# Altium integrated library ON Semi Transient Voltage Suppressors (TVS).IntLib: 730 symbols (part 12 of 17)
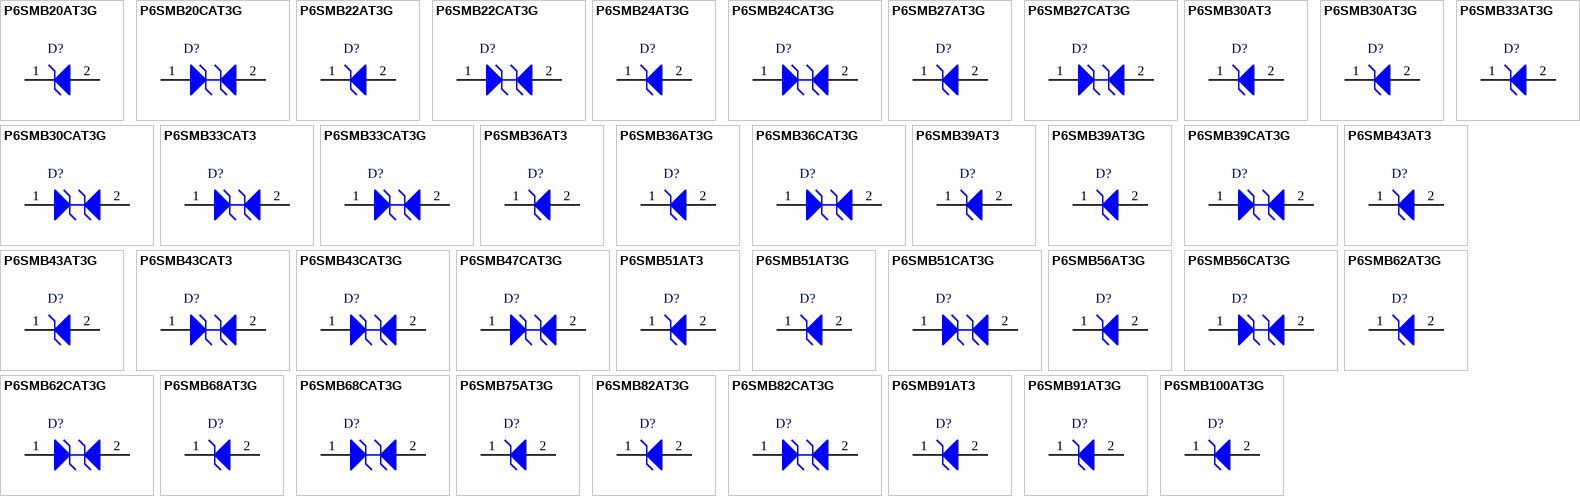
[diagram p29: symbols P6SMB20AT3G to P6SMB100AT3G]

## P6SMB30AT3
designator D?
600 W Peak Power Zener Transient Voltage Suppressor, Unidirectional, 2-Pin SMB, Tape and Reel; Manufacturer: On Semiconductor; PartNumber: P6SMB30AT3; IR Max (uA): 5; PPK Max (W): 600; V(BR) Typ (V): 30; DatasheetVersion: Rev. J; PackageVersion: Rev. J, 07/2012; PackageReference: SMB-2-403A-03_J; PackageDescription: 2-Pin Small Molded Package, J-Bend Lead, Body 4.33 x 3.625 mm; Supplier 1: Digi-Key; Supplier Part Number 1: P6SMB30AT3OSCT-ND; Supplier 2: Digi-Key; Supplier Part Number 2: P6SMB30AT3OSDKR-ND; Direction: Unidirectional; Packing: Tape and Reel; Mounting Technology: Surface Mount; ComponentLink1Description: Manufacturer URL; ComponentLink1URL: http://www.onsemi.com/; ComponentLink2Description: Datasheet; ComponentLink2URL: http://www.onsemi.com/pub_link/Collateral/P6SMB6.8AT3-D.PDF; ComponentLink3Description: Package Specification; ComponentLink3URL: http://www.onsemi.com/pub_link/Collateral/P6SMB6.8AT3-D.PDF
footprint ONSC-SMB-2-403A-03_J_V (Molded, 2-Leads, Body 4.6x3.95mm)
pins: 1 K, 2 A

## P6SMB30AT3G
designator D?
600 W Peak Power Zener Transient Voltage Suppressor, Unidirectional, 2-Pin SMB, Pb-Free, Tape and Reel; Manufacturer: On Semiconductor; PartNumber: P6SMB30AT3G; IR Max (uA): 5; PPK Max (W): 600; V(BR) Typ (V): 30; DatasheetVersion: Rev. J; PackageVersion: Rev. J, 07/2012; PackageReference: SMB-2-403A-03_J; PackageDescription: 2-Pin Small Molded Package, J-Bend Lead, Body 4.33 x 3.625 mm; Supplier 1: Digi-Key; Supplier Part Number 1: P6SMB30AT3GOSTR-ND; Supplier 2: Digi-Key; Supplier Part Number 2: P6SMB30AT3GOSCT-ND; Supplier 3: Digi-Key; Supplier Part Number 3: P6SMB30AT3GOSDKR-ND; Supplier 4: Farnell; Supplier Part Number 4: 1651643; Supplier 5: Farnell; Supplier Part Number 5: 1651643RL; Supplier 6: Newark; Supplier Part Number 6: 71J7344; Supplier 7: Mouser; Supplier Part Number 7: 863-P6SMB30AT3G; Direction: Unidirectional; Packing: Tape and Reel; RoHS: Pb-Free; Mounting Technology: Surface Mount; ComponentLink1Description: Manufacturer URL; ComponentLink1URL: http://www.onsemi.com/; ComponentLink2Description: Datasheet; ComponentLink2URL: http://www.onsemi.com/pub_link/Collateral/P6SMB6.8AT3-D.PDF; ComponentLink3Description: Package Specification; ComponentLink3URL: http://www.onsemi.com/pub_link/Collateral/P6SMB6.8AT3-D.PDF
footprint ONSC-SMB-2-403A-03_J_V (Molded, 2-Leads, Body 4.6x3.95mm)
pins: 1 K, 2 A

## P6SMB30CAT3G
designator D?
600 W Peak Power Zener Transient Voltage Suppressor, Bidirectional, 2-Pin SMB, Pb-Free, Tape and Reel; Manufacturer: On Semiconductor; PartNumber: P6SMB30CAT3G; IR Max (uA): 5; PPK Max (W): 600; V(BR) Typ (V): 30; DatasheetVersion: Rev. 12; PackageVersion: Rev. H, 05/2011; PackageReference: SMB-2-403A-03_H; PackageDescription: 2-Pin Small Molded Package, J-Bend Lead, Body 4.33 x 3.625 mm; Supplier 1: Digi-Key; Supplier Part Number 1: P6SMB30CAT3GOSTR-ND; Supplier 2: Digi-Key; Supplier Part Number 2: P6SMB30CAT3GOSCT-ND; Supplier 3: Digi-Key; Supplier Part Number 3: P6SMB30CAT3GOSDKR-ND; Supplier 4: Farnell; Supplier Part Number 4: 1364578; Supplier 5: Newark; Supplier Part Number 5: 42K2551; Supplier 6: Mouser; Supplier Part Number 6: 863-P6SMB30CAT3G; Direction: Bidirectional; Packing: Tape and Reel; RoHS: Pb-Free; Mounting Technology: Surface Mount; ComponentLink1Description: Manufacturer URL; ComponentLink1URL: http://www.onsemi.com/; ComponentLink2Description: Datasheet; ComponentLink2URL: http://www.onsemi.com/pub_link/Collateral/P6SMB11CAT3-D.PDF; ComponentLink3Description: Package Specification; ComponentLink3URL: http://www.onsemi.com/pub_link/Collateral/1SMB5913BT3-D.PDF
footprint ONSC-SMB-2-403A-03_H_V (Molded, 2-Leads, Body 4.6x3.95mm)
pins: 1 A1, 2 A2

## P6SMB33AT3G
designator D?
600 W Peak Power Zener Transient Voltage Suppressor, Unidirectional, 2-Pin SMB, Pb-Free, Tape and Reel; Manufacturer: On Semiconductor; PartNumber: P6SMB33AT3G; IR Max (uA): 5; PPK Max (W): 600; V(BR) Typ (V): 33.05; DatasheetVersion: Rev. J; PackageVersion: Rev. J, 07/2012; PackageReference: SMB-2-403A-03_J; PackageDescription: 2-Pin Small Molded Package, J-Bend Lead, Body 4.33 x 3.625 mm; Supplier 1: Digi-Key; Supplier Part Number 1: P6SMB33AT3GOSTR-ND; Supplier 2: Digi-Key; Supplier Part Number 2: P6SMB33AT3GOSCT-ND; Supplier 3: Digi-Key; Supplier Part Number 3: P6SMB33AT3GOSDKR-ND; Supplier 4: Farnell; Supplier Part Number 4: 2317507; Supplier 5: Newark; Supplier Part Number 5: 45J2228; Supplier 6: Mouser; Supplier Part Number 6: 863-P6SMB33AT3G; Direction: Unidirectional; Packing: Tape and Reel; RoHS: Pb-Free; Mounting Technology: Surface Mount; ComponentLink1Description: Manufacturer URL; ComponentLink1URL: http://www.onsemi.com/; ComponentLink2Description: Datasheet; ComponentLink2URL: http://www.onsemi.com/pub_link/Collateral/P6SMB6.8AT3-D.PDF; ComponentLink3Description: Package Specification; ComponentLink3URL: http://www.onsemi.com/pub_link/Collateral/P6SMB6.8AT3-D.PDF
footprint ONSC-SMB-2-403A-03_J_V (Molded, 2-Leads, Body 4.6x3.95mm)
pins: 1 K, 2 A

## P6SMB33CAT3
designator D?
600 W Peak Power Zener Transient Voltage Suppressor, Bidirectional, 2-Pin SMB, Tape and Reel; Manufacturer: On Semiconductor; PartNumber: P6SMB33CAT3; IR Max (uA): 5; PPK Max (W): 600; V(BR) Typ (V): 33.05; DatasheetVersion: Rev. 12; PackageVersion: Rev. H, 05/2011; PackageReference: SMB-2-403A-03_H; PackageDescription: 2-Pin Small Molded Package, J-Bend Lead, Body 4.33 x 3.625 mm; Supplier 1: Digi-Key; Supplier Part Number 1: P6SMB33CAT3OSTR-ND; Supplier 2: Digi-Key; Supplier Part Number 2: P6SMB33CAT3OSCT-ND; Supplier 3: Digi-Key; Supplier Part Number 3: P6SMB33CAT3OSDKR-ND; Direction: Bidirectional; Packing: Tape and Reel; Mounting Technology: Surface Mount; ComponentLink1Description: Manufacturer URL; ComponentLink1URL: http://www.onsemi.com/; ComponentLink2Description: Datasheet; ComponentLink2URL: http://www.onsemi.com/pub_link/Collateral/P6SMB11CAT3-D.PDF; ComponentLink3Description: Package Specification; ComponentLink3URL: http://www.onsemi.com/pub_link/Collateral/1SMB5913BT3-D.PDF
footprint ONSC-SMB-2-403A-03_H_V (Molded, 2-Leads, Body 4.6x3.95mm)
pins: 1 A1, 2 A2

## P6SMB33CAT3G
designator D?
600 W Peak Power Zener Transient Voltage Suppressor, Bidirectional, 2-Pin SMB, Pb-Free, Tape and Reel; Manufacturer: On Semiconductor; PartNumber: P6SMB33CAT3G; IR Max (uA): 5; PPK Max (W): 600; V(BR) Typ (V): 33.05; DatasheetVersion: Rev. 12; PackageVersion: Rev. H, 05/2011; PackageReference: SMB-2-403A-03_H; PackageDescription: 2-Pin Small Molded Package, J-Bend Lead, Body 4.33 x 3.625 mm; Supplier 1: Digi-Key; Supplier Part Number 1: P6SMB33CAT3GOSTR-ND; Supplier 2: Digi-Key; Supplier Part Number 2: P6SMB33CAT3GOSCT-ND; Supplier 3: Digi-Key; Supplier Part Number 3: P6SMB33CAT3GOSDKR-ND; Supplier 4: Farnell; Supplier Part Number 4: 1143541; Supplier 5: Newark; Supplier Part Number 5: 42K2552; Supplier 6: Mouser; Supplier Part Number 6: 863-P6SMB33CAT3G; Direction: Bidirectional; Packing: Tape and Reel; RoHS: Pb-Free; Mounting Technology: Surface Mount; ComponentLink1Description: Manufacturer URL; ComponentLink1URL: http://www.onsemi.com/; ComponentLink2Description: Datasheet; ComponentLink2URL: http://www.onsemi.com/pub_link/Collateral/P6SMB11CAT3-D.PDF; ComponentLink3Description: Package Specification; ComponentLink3URL: http://www.onsemi.com/pub_link/Collateral/1SMB5913BT3-D.PDF
footprint ONSC-SMB-2-403A-03_H_V (Molded, 2-Leads, Body 4.6x3.95mm)
pins: 1 A1, 2 A2

## P6SMB36AT3
designator D?
600 W Peak Power Zener Transient Voltage Suppressor, Unidirectional, 2-Pin SMB, Tape and Reel; Manufacturer: On Semiconductor; PartNumber: P6SMB36AT3; IR Max (uA): 5; PPK Max (W): 600; V(BR) Typ (V): 36; DatasheetVersion: Rev. J; PackageVersion: Rev. J, 07/2012; PackageReference: SMB-2-403A-03_J; PackageDescription: 2-Pin Small Molded Package, J-Bend Lead, Body 4.33 x 3.625 mm; Supplier 1: Digi-Key; Supplier Part Number 1: P6SMB36AT3OSCT-ND; Supplier 2: Digi-Key; Supplier Part Number 2: P6SMB36AT3OSDKR-ND; Direction: Unidirectional; Packing: Tape and Reel; Mounting Technology: Surface Mount; ComponentLink1Description: Manufacturer URL; ComponentLink1URL: http://www.onsemi.com/; ComponentLink2Description: Datasheet; ComponentLink2URL: http://www.onsemi.com/pub_link/Collateral/P6SMB6.8AT3-D.PDF; ComponentLink3Description: Package Specification; ComponentLink3URL: http://www.onsemi.com/pub_link/Collateral/P6SMB6.8AT3-D.PDF
footprint ONSC-SMB-2-403A-03_J_V (Molded, 2-Leads, Body 4.6x3.95mm)
pins: 1 K, 2 A

## P6SMB36AT3G
designator D?
600 W Peak Power Zener Transient Voltage Suppressor, Unidirectional, 2-Pin SMB, Pb-Free, Tape and Reel; Manufacturer: On Semiconductor; PartNumber: P6SMB36AT3G; IR Max (uA): 5; PPK Max (W): 600; V(BR) Typ (V): 36; DatasheetVersion: Rev. J; PackageVersion: Rev. J, 07/2012; PackageReference: SMB-2-403A-03_J; PackageDescription: 2-Pin Small Molded Package, J-Bend Lead, Body 4.33 x 3.625 mm; Supplier 1: Digi-Key; Supplier Part Number 1: P6SMB36AT3GOSTR-ND; Supplier 2: Digi-Key; Supplier Part Number 2: P6SMB36AT3GOSCT-ND; Supplier 3: Digi-Key; Supplier Part Number 3: P6SMB36AT3GOSDKR-ND; Supplier 4: Farnell; Supplier Part Number 4: 1459164; Supplier 5: Farnell; Supplier Part Number 5: 1459164RL; Supplier 6: Newark; Supplier Part Number 6: 45J2229; Supplier 7: Mouser; Supplier Part Number 7: 863-P6SMB36AT3G; Direction: Unidirectional; Packing: Tape and Reel; RoHS: Pb-Free; Mounting Technology: Surface Mount; ComponentLink1Description: Manufacturer URL; ComponentLink1URL: http://www.onsemi.com/; ComponentLink2Description: Datasheet; ComponentLink2URL: http://www.onsemi.com/pub_link/Collateral/P6SMB6.8AT3-D.PDF; ComponentLink3Description: Package Specification; ComponentLink3URL: http://www.onsemi.com/pub_link/Collateral/P6SMB6.8AT3-D.PDF
footprint ONSC-SMB-2-403A-03_J_V (Molded, 2-Leads, Body 4.6x3.95mm)
pins: 1 K, 2 A

## P6SMB36CAT3G
designator D?
600 W Peak Power Zener Transient Voltage Suppressor, Bidirectional, 2-Pin SMB, Pb-Free, Tape and Reel; Manufacturer: On Semiconductor; PartNumber: P6SMB36CAT3G; IR Max (uA): 5; PPK Max (W): 600; V(BR) Typ (V): 36; DatasheetVersion: Rev. 12; PackageVersion: Rev. H, 05/2011; PackageReference: SMB-2-403A-03_H; PackageDescription: 2-Pin Small Molded Package, J-Bend Lead, Body 4.33 x 3.625 mm; Supplier 1: Digi-Key; Supplier Part Number 1: P6SMB36CAT3GOSTR-ND; Supplier 2: Digi-Key; Supplier Part Number 2: P6SMB36CAT3GOSCT-ND; Supplier 3: Digi-Key; Supplier Part Number 3: P6SMB36CAT3GOSDKR-ND; Supplier 4: Farnell; Supplier Part Number 4: 2317514; Supplier 5: Newark; Supplier Part Number 5: 09R9701; Supplier 6: Newark; Supplier Part Number 6: 45J2230; Supplier 7: Mouser; Supplier Part Number 7: 863-P6SMB36CAT3G; Direction: Bidirectional; Packing: Tape and Reel; RoHS: Pb-Free; Mounting Technology: Surface Mount; ComponentLink1Description: Manufacturer URL; ComponentLink1URL: http://www.onsemi.com/; ComponentLink2Description: Datasheet; ComponentLink2URL: http://www.onsemi.com/pub_link/Collateral/P6SMB11CAT3-D.PDF; ComponentLink3Description: Package Specification; ComponentLink3URL: http://www.onsemi.com/pub_link/Collateral/1SMB5913BT3-D.PDF
footprint ONSC-SMB-2-403A-03_H_V (Molded, 2-Leads, Body 4.6x3.95mm)
pins: 1 A1, 2 A2

## P6SMB39AT3
designator D?
600 W Peak Power Zener Transient Voltage Suppressor, Unidirectional, 2-Pin SMB, Tape and Reel; Manufacturer: On Semiconductor; PartNumber: P6SMB39AT3; IR Max (uA): 5; PPK Max (W): 600; V(BR) Typ (V): 39.05; DatasheetVersion: Rev. J; PackageVersion: Rev. J, 07/2012; PackageReference: SMB-2-403A-03_J; PackageDescription: 2-Pin Small Molded Package, J-Bend Lead, Body 4.33 x 3.625 mm; Supplier 1: Digi-Key; Supplier Part Number 1: P6SMB39AT3OSCT-ND; Supplier 2: Digi-Key; Supplier Part Number 2: P6SMB39AT3OSDKR-ND; Direction: Unidirectional; Packing: Tape and Reel; Mounting Technology: Surface Mount; ComponentLink1Description: Manufacturer URL; ComponentLink1URL: http://www.onsemi.com/; ComponentLink2Description: Datasheet; ComponentLink2URL: http://www.onsemi.com/pub_link/Collateral/P6SMB6.8AT3-D.PDF; ComponentLink3Description: Package Specification; ComponentLink3URL: http://www.onsemi.com/pub_link/Collateral/P6SMB6.8AT3-D.PDF
footprint ONSC-SMB-2-403A-03_J_V (Molded, 2-Leads, Body 4.6x3.95mm)
pins: 1 K, 2 A

## P6SMB39AT3G
designator D?
600 W Peak Power Zener Transient Voltage Suppressor, Unidirectional, 2-Pin SMB, Pb-Free, Tape and Reel; Manufacturer: On Semiconductor; PartNumber: P6SMB39AT3G; IR Max (uA): 5; PPK Max (W): 600; V(BR) Typ (V): 39.05; DatasheetVersion: Rev. J; PackageVersion: Rev. J, 07/2012; PackageReference: SMB-2-403A-03_J; PackageDescription: 2-Pin Small Molded Package, J-Bend Lead, Body 4.33 x 3.625 mm; Supplier 1: Digi-Key; Supplier Part Number 1: P6SMB39AT3GOSTR-ND; Supplier 2: Digi-Key; Supplier Part Number 2: P6SMB39AT3GOSCT-ND; Supplier 3: Digi-Key; Supplier Part Number 3: P6SMB39AT3GOSDKR-ND; Supplier 4: Farnell; Supplier Part Number 4: 1459165; Supplier 5: Farnell; Supplier Part Number 5: 1459165RL; Supplier 6: Newark; Supplier Part Number 6: 45J2231; Supplier 7: Mouser; Supplier Part Number 7: 863-P6SMB39AT3G; Direction: Unidirectional; Packing: Tape and Reel; RoHS: Pb-Free; Mounting Technology: Surface Mount; ComponentLink1Description: Manufacturer URL; ComponentLink1URL: http://www.onsemi.com/; ComponentLink2Description: Datasheet; ComponentLink2URL: http://www.onsemi.com/pub_link/Collateral/P6SMB6.8AT3-D.PDF; ComponentLink3Description: Package Specification; ComponentLink3URL: http://www.onsemi.com/pub_link/Collateral/P6SMB6.8AT3-D.PDF
footprint ONSC-SMB-2-403A-03_J_V (Molded, 2-Leads, Body 4.6x3.95mm)
pins: 1 K, 2 A

## P6SMB39CAT3G
designator D?
600 W Peak Power Zener Transient Voltage Suppressor, Bidirectional, 2-Pin SMB, Pb-Free, Tape and Reel; Manufacturer: On Semiconductor; PartNumber: P6SMB39CAT3G; IR Max (uA): 5; PPK Max (W): 600; V(BR) Typ (V): 39.05; DatasheetVersion: Rev. 12; PackageVersion: Rev. H, 05/2011; PackageReference: SMB-2-403A-03_H; PackageDescription: 2-Pin Small Molded Package, J-Bend Lead, Body 4.33 x 3.625 mm; Supplier 1: Digi-Key; Supplier Part Number 1: P6SMB39CAT3GOSTR-ND; Supplier 2: Digi-Key; Supplier Part Number 2: P6SMB39CAT3GOSCT-ND; Supplier 3: Digi-Key; Supplier Part Number 3: P6SMB39CAT3GOSDKR-ND; Supplier 4: Farnell; Supplier Part Number 4: 2317496; Supplier 5: Newark; Supplier Part Number 5: 09R9702; Supplier 6: Newark; Supplier Part Number 6: 90W9547; Supplier 7: Newark; Supplier Part Number 7: 42K2553; Supplier 8: Mouser; Supplier Part Number 8: 863-P6SMB39CAT3G; Direction: Bidirectional; Packing: Tape and Reel; RoHS: Pb-Free; Mounting Technology: Surface Mount; ComponentLink1Description: Manufacturer URL; ComponentLink1URL: http://www.onsemi.com/; ComponentLink2Description: Datasheet; ComponentLink2URL: http://www.onsemi.com/pub_link/Collateral/P6SMB11CAT3-D.PDF; ComponentLink3Description: Package Specification; ComponentLink3URL: http://www.onsemi.com/pub_link/Collateral/1SMB5913BT3-D.PDF
footprint ONSC-SMB-2-403A-03_H_V (Molded, 2-Leads, Body 4.6x3.95mm)
pins: 1 A1, 2 A2

## P6SMB43AT3
designator D?
600 W Peak Power Zener Transient Voltage Suppressor, Unidirectional, 2-Pin SMB, Tape and Reel; Manufacturer: On Semiconductor; PartNumber: P6SMB43AT3; IR Max (uA): 5; PPK Max (W): 600; V(BR) Typ (V): 43.05; DatasheetVersion: Rev. J; PackageVersion: Rev. J, 07/2012; PackageReference: SMB-2-403A-03_J; PackageDescription: 2-Pin Small Molded Package, J-Bend Lead, Body 4.33 x 3.625 mm; Supplier 1: Digi-Key; Supplier Part Number 1: P6SMB43AT3OSCT-ND; Supplier 2: Digi-Key; Supplier Part Number 2: P6SMB43AT3OSDKR-ND; Direction: Unidirectional; Packing: Tape and Reel; Mounting Technology: Surface Mount; ComponentLink1Description: Manufacturer URL; ComponentLink1URL: http://www.onsemi.com/; ComponentLink2Description: Datasheet; ComponentLink2URL: http://www.onsemi.com/pub_link/Collateral/P6SMB6.8AT3-D.PDF; ComponentLink3Description: Package Specification; ComponentLink3URL: http://www.onsemi.com/pub_link/Collateral/P6SMB6.8AT3-D.PDF
footprint ONSC-SMB-2-403A-03_J_V (Molded, 2-Leads, Body 4.6x3.95mm)
pins: 1 K, 2 A

## P6SMB43AT3G
designator D?
600 W Peak Power Zener Transient Voltage Suppressor, Unidirectional, 2-Pin SMB, Pb-Free, Tape and Reel; Manufacturer: On Semiconductor; PartNumber: P6SMB43AT3G; IR Max (uA): 5; PPK Max (W): 600; V(BR) Typ (V): 43.05; DatasheetVersion: Rev. J; PackageVersion: Rev. J, 07/2012; PackageReference: SMB-2-403A-03_J; PackageDescription: 2-Pin Small Molded Package, J-Bend Lead, Body 4.33 x 3.625 mm; Supplier 1: Digi-Key; Supplier Part Number 1: P6SMB43AT3GOSTR-ND; Supplier 2: Digi-Key; Supplier Part Number 2: P6SMB43AT3GOSCT-ND; Supplier 3: Digi-Key; Supplier Part Number 3: P6SMB43AT3GOSDKR-ND; Supplier 4: Farnell; Supplier Part Number 4: 2317482; Supplier 5: Newark; Supplier Part Number 5: 09R9703; Supplier 6: Newark; Supplier Part Number 6: 45J2232; Supplier 7: Mouser; Supplier Part Number 7: 863-P6SMB43AT3G; Direction: Unidirectional; Packing: Tape and Reel; RoHS: Pb-Free; Mounting Technology: Surface Mount; ComponentLink1Description: Manufacturer URL; ComponentLink1URL: http://www.onsemi.com/; ComponentLink2Description: Datasheet; ComponentLink2URL: http://www.onsemi.com/pub_link/Collateral/P6SMB6.8AT3-D.PDF; ComponentLink3Description: Package Specification; ComponentLink3URL: http://www.onsemi.com/pub_link/Collateral/P6SMB6.8AT3-D.PDF
footprint ONSC-SMB-2-403A-03_J_V (Molded, 2-Leads, Body 4.6x3.95mm)
pins: 1 K, 2 A

## P6SMB43CAT3
designator D?
600 W Peak Power Zener Transient Voltage Suppressor, Bidirectional, 2-Pin SMB, Tape and Reel; Manufacturer: On Semiconductor; PartNumber: P6SMB43CAT3; IR Max (uA): 5; PPK Max (W): 600; V(BR) Typ (V): 43.05; DatasheetVersion: Rev. 12; PackageVersion: Rev. H, 05/2011; PackageReference: SMB-2-403A-03_H; PackageDescription: 2-Pin Small Molded Package, J-Bend Lead, Body 4.33 x 3.625 mm; Direction: Bidirectional; Packing: Tape and Reel; Mounting Technology: Surface Mount; ComponentLink1Description: Manufacturer URL; ComponentLink1URL: http://www.onsemi.com/; ComponentLink2Description: Datasheet; ComponentLink2URL: http://www.onsemi.com/pub_link/Collateral/P6SMB11CAT3-D.PDF; ComponentLink3Description: Package Specification; ComponentLink3URL: http://www.onsemi.com/pub_link/Collateral/1SMB5913BT3-D.PDF
footprint ONSC-SMB-2-403A-03_H_V (Molded, 2-Leads, Body 4.6x3.95mm)
pins: 1 A1, 2 A2

## P6SMB43CAT3G
designator D?
600 W Peak Power Zener Transient Voltage Suppressor, Bidirectional, 2-Pin SMB, Pb-Free, Tape and Reel; Manufacturer: On Semiconductor; PartNumber: P6SMB43CAT3G; IR Max (uA): 5; PPK Max (W): 600; V(BR) Typ (V): 43.05; DatasheetVersion: Rev. 12; PackageVersion: Rev. H, 05/2011; PackageReference: SMB-2-403A-03_H; PackageDescription: 2-Pin Small Molded Package, J-Bend Lead, Body 4.33 x 3.625 mm; Supplier 1: Digi-Key; Supplier Part Number 1: P6SMB43CAT3GOSTR-ND; Supplier 2: Digi-Key; Supplier Part Number 2: P6SMB43CAT3GOSCT-ND; Supplier 3: Digi-Key; Supplier Part Number 3: P6SMB43CAT3GOSDKR-ND; Supplier 4: Newark; Supplier Part Number 4: 45J2233; Supplier 5: Mouser; Supplier Part Number 5: 863-P6SMB43CAT3G; Direction: Bidirectional; Packing: Tape and Reel; RoHS: Pb-Free; Mounting Technology: Surface Mount; ComponentLink1Description: Manufacturer URL; ComponentLink1URL: http://www.onsemi.com/; ComponentLink2Description: Datasheet; ComponentLink2URL: http://www.onsemi.com/pub_link/Collateral/P6SMB11CAT3-D.PDF; ComponentLink3Description: Package Specification; ComponentLink3URL: http://www.onsemi.com/pub_link/Collateral/1SMB5913BT3-D.PDF
footprint ONSC-SMB-2-403A-03_H_V (Molded, 2-Leads, Body 4.6x3.95mm)
pins: 1 A1, 2 A2

## P6SMB47CAT3G
designator D?
600 W Peak Power Zener Transient Voltage Suppressor, Bidirectional, 2-Pin SMB, Pb-Free, Tape and Reel; Manufacturer: On Semiconductor; PartNumber: P6SMB47CAT3G; IR Max (uA): 5; PPK Max (W): 600; V(BR) Typ (V): 47.05; DatasheetVersion: Rev. 12; PackageVersion: Rev. H, 05/2011; PackageReference: SMB-2-403A-03_H; PackageDescription: 2-Pin Small Molded Package, J-Bend Lead, Body 4.33 x 3.625 mm; Supplier 1: Digi-Key; Supplier Part Number 1: P6SMB47CAT3GOSTR-ND; Supplier 2: Digi-Key; Supplier Part Number 2: P6SMB47CAT3GOSCT-ND; Supplier 3: Digi-Key; Supplier Part Number 3: P6SMB47CAT3GOSDKR-ND; Supplier 4: Newark; Supplier Part Number 4: 26K5161; Supplier 5: Mouser; Supplier Part Number 5: 863-P6SMB47CAT3G; Direction: Bidirectional; Packing: Tape and Reel; RoHS: Pb-Free; Mounting Technology: Surface Mount; ComponentLink1Description: Manufacturer URL; ComponentLink1URL: http://www.onsemi.com/; ComponentLink2Description: Datasheet; ComponentLink2URL: http://www.onsemi.com/pub_link/Collateral/P6SMB11CAT3-D.PDF; ComponentLink3Description: Package Specification; ComponentLink3URL: http://www.onsemi.com/pub_link/Collateral/1SMB5913BT3-D.PDF
footprint ONSC-SMB-2-403A-03_H_V (Molded, 2-Leads, Body 4.6x3.95mm)
pins: 1 A1, 2 A2

## P6SMB51AT3
designator D?
600 W Peak Power Zener Transient Voltage Suppressor, Unidirectional, 2-Pin SMB, Tape and Reel; Manufacturer: On Semiconductor; PartNumber: P6SMB51AT3; IR Max (uA): 5; PPK Max (W): 600; V(BR) Typ (V): 51.05; DatasheetVersion: Rev. J; PackageVersion: Rev. J, 07/2012; PackageReference: SMB-2-403A-03_J; PackageDescription: 2-Pin Small Molded Package, J-Bend Lead, Body 4.33 x 3.625 mm; Supplier 1: Digi-Key; Supplier Part Number 1: P6SMB51AT3OSCT-ND; Supplier 2: Digi-Key; Supplier Part Number 2: P6SMB51AT3OSDKR-ND; Direction: Unidirectional; Packing: Tape and Reel; Mounting Technology: Surface Mount; ComponentLink1Description: Manufacturer URL; ComponentLink1URL: http://www.onsemi.com/; ComponentLink2Description: Datasheet; ComponentLink2URL: http://www.onsemi.com/pub_link/Collateral/P6SMB6.8AT3-D.PDF; ComponentLink3Description: Package Specification; ComponentLink3URL: http://www.onsemi.com/pub_link/Collateral/P6SMB6.8AT3-D.PDF
footprint ONSC-SMB-2-403A-03_J_V (Molded, 2-Leads, Body 4.6x3.95mm)
pins: 1 K, 2 A

## P6SMB51AT3G
designator D?
600 W Peak Power Zener Transient Voltage Suppressor, Unidirectional, 2-Pin SMB, Pb-Free, Tape and Reel; Manufacturer: On Semiconductor; PartNumber: P6SMB51AT3G; IR Max (uA): 5; PPK Max (W): 600; V(BR) Typ (V): 51.05; DatasheetVersion: Rev. J; PackageVersion: Rev. J, 07/2012; PackageReference: SMB-2-403A-03_J; PackageDescription: 2-Pin Small Molded Package, J-Bend Lead, Body 4.33 x 3.625 mm; Supplier 1: Digi-Key; Supplier Part Number 1: P6SMB51AT3GOSTR-ND; Supplier 2: Digi-Key; Supplier Part Number 2: P6SMB51AT3GOSCT-ND; Supplier 3: Digi-Key; Supplier Part Number 3: P6SMB51AT3GOSDKR-ND; Supplier 4: Newark; Supplier Part Number 4: 26K5162; Supplier 5: Mouser; Supplier Part Number 5: 863-P6SMB51AT3G; Direction: Unidirectional; Packing: Tape and Reel; RoHS: Pb-Free; Mounting Technology: Surface Mount; ComponentLink1Description: Manufacturer URL; ComponentLink1URL: http://www.onsemi.com/; ComponentLink2Description: Datasheet; ComponentLink2URL: http://www.onsemi.com/pub_link/Collateral/P6SMB6.8AT3-D.PDF; ComponentLink3Description: Package Specification; ComponentLink3URL: http://www.onsemi.com/pub_link/Collateral/P6SMB6.8AT3-D.PDF
footprint ONSC-SMB-2-403A-03_J_V (Molded, 2-Leads, Body 4.6x3.95mm)
pins: 1 K, 2 A

## P6SMB51CAT3G
designator D?
600 W Peak Power Zener Transient Voltage Suppressor, Bidirectional, 2-Pin SMB, Pb-Free, Tape and Reel; Manufacturer: On Semiconductor; PartNumber: P6SMB51CAT3G; IR Max (uA): 5; PPK Max (W): 600; V(BR) Typ (V): 51.05; DatasheetVersion: Rev. 12; PackageVersion: Rev. H, 05/2011; PackageReference: SMB-2-403A-03_H; PackageDescription: 2-Pin Small Molded Package, J-Bend Lead, Body 4.33 x 3.625 mm; Supplier 1: Digi-Key; Supplier Part Number 1: P6SMB51CAT3G-ND; Supplier 2: Newark; Supplier Part Number 2: 26K5163; Supplier 3: Mouser; Supplier Part Number 3: 863-P6SMB51CAT3G; Direction: Bidirectional; Packing: Tape and Reel; RoHS: Pb-Free; Mounting Technology: Surface Mount; ComponentLink1Description: Manufacturer URL; ComponentLink1URL: http://www.onsemi.com/; ComponentLink2Description: Datasheet; ComponentLink2URL: http://www.onsemi.com/pub_link/Collateral/P6SMB11CAT3-D.PDF; ComponentLink3Description: Package Specification; ComponentLink3URL: http://www.onsemi.com/pub_link/Collateral/1SMB5913BT3-D.PDF
footprint ONSC-SMB-2-403A-03_H_V (Molded, 2-Leads, Body 4.6x3.95mm)
pins: 1 A1, 2 A2

## P6SMB56AT3G
designator D?
600 W Peak Power Zener Transient Voltage Suppressor, Unidirectional, 2-Pin SMB, Pb-Free, Tape and Reel; Manufacturer: On Semiconductor; PartNumber: P6SMB56AT3G; IR Max (uA): 5; PPK Max (W): 600; V(BR) Typ (V): 56; DatasheetVersion: Rev. J; PackageVersion: Rev. J, 07/2012; PackageReference: SMB-2-403A-03_J; PackageDescription: 2-Pin Small Molded Package, J-Bend Lead, Body 4.33 x 3.625 mm; Supplier 1: Digi-Key; Supplier Part Number 1: P6SMB56AT3GOSTR-ND; Supplier 2: Digi-Key; Supplier Part Number 2: P6SMB56AT3GOSCT-ND; Supplier 3: Digi-Key; Supplier Part Number 3: P6SMB56AT3GOSDKR-ND; Supplier 4: Farnell; Supplier Part Number 4: 2317494; Supplier 5: Newark; Supplier Part Number 5: 85W2868; Supplier 6: Mouser; Supplier Part Number 6: 863-P6SMB56AT3G; Direction: Unidirectional; Packing: Tape and Reel; RoHS: Pb-Free; Mounting Technology: Surface Mount; ComponentLink1Description: Manufacturer URL; ComponentLink1URL: http://www.onsemi.com/; ComponentLink2Description: Datasheet; ComponentLink2URL: http://www.onsemi.com/pub_link/Collateral/P6SMB6.8AT3-D.PDF; ComponentLink3Description: Package Specification; ComponentLink3URL: http://www.onsemi.com/pub_link/Collateral/P6SMB6.8AT3-D.PDF
footprint ONSC-SMB-2-403A-03_J_V (Molded, 2-Leads, Body 4.6x3.95mm)
pins: 1 K, 2 A

## P6SMB56CAT3G
designator D?
600 W Peak Power Zener Transient Voltage Suppressor, Bidirectional, 2-Pin SMB, Pb-Free, Tape and Reel; Manufacturer: On Semiconductor; PartNumber: P6SMB56CAT3G; IR Max (uA): 5; PPK Max (W): 600; V(BR) Typ (V): 56; DatasheetVersion: Rev. 12; PackageVersion: Rev. H, 05/2011; PackageReference: SMB-2-403A-03_H; PackageDescription: 2-Pin Small Molded Package, J-Bend Lead, Body 4.33 x 3.625 mm; Supplier 1: Digi-Key; Supplier Part Number 1: P6SMB56CAT3GOSTR-ND; Supplier 2: Digi-Key; Supplier Part Number 2: P6SMB56CAT3GOSCT-ND; Supplier 3: Digi-Key; Supplier Part Number 3: P6SMB56CAT3GOSDKR-ND; Supplier 4: Newark; Supplier Part Number 4: 26K5165; Supplier 5: Mouser; Supplier Part Number 5: 863-P6SMB56CAT3G; Direction: Bidirectional; Packing: Tape and Reel; RoHS: Pb-Free; Mounting Technology: Surface Mount; ComponentLink1Description: Manufacturer URL; ComponentLink1URL: http://www.onsemi.com/; ComponentLink2Description: Datasheet; ComponentLink2URL: http://www.onsemi.com/pub_link/Collateral/P6SMB11CAT3-D.PDF; ComponentLink3Description: Package Specification; ComponentLink3URL: http://www.onsemi.com/pub_link/Collateral/1SMB5913BT3-D.PDF
footprint ONSC-SMB-2-403A-03_H_V (Molded, 2-Leads, Body 4.6x3.95mm)
pins: 1 A1, 2 A2

## P6SMB62AT3G
designator D?
600 W Peak Power Zener Transient Voltage Suppressor, Unidirectional, 2-Pin SMB, Pb-Free, Tape and Reel; Manufacturer: On Semiconductor; PartNumber: P6SMB62AT3G; IR Max (uA): 5; PPK Max (W): 600; V(BR) Typ (V): 62; DatasheetVersion: Rev. J; PackageVersion: Rev. J, 07/2012; PackageReference: SMB-2-403A-03_J; PackageDescription: 2-Pin Small Molded Package, J-Bend Lead, Body 4.33 x 3.625 mm; Supplier 1: Digi-Key; Supplier Part Number 1: P6SMB62AT3GOSTR-ND; Supplier 2: Digi-Key; Supplier Part Number 2: P6SMB62AT3GOSCT-ND; Supplier 3: Digi-Key; Supplier Part Number 3: P6SMB62AT3GOSDKR-ND; Supplier 4: Newark; Supplier Part Number 4: 26K5166; Supplier 5: Mouser; Supplier Part Number 5: 863-P6SMB62AT3G; Direction: Unidirectional; Packing: Tape and Reel; RoHS: Pb-Free; Mounting Technology: Surface Mount; ComponentLink1Description: Manufacturer URL; ComponentLink1URL: http://www.onsemi.com/; ComponentLink2Description: Datasheet; ComponentLink2URL: http://www.onsemi.com/pub_link/Collateral/P6SMB6.8AT3-D.PDF; ComponentLink3Description: Package Specification; ComponentLink3URL: http://www.onsemi.com/pub_link/Collateral/P6SMB6.8AT3-D.PDF
footprint ONSC-SMB-2-403A-03_J_V (Molded, 2-Leads, Body 4.6x3.95mm)
pins: 1 K, 2 A

## P6SMB62CAT3G
designator D?
600 W Peak Power Zener Transient Voltage Suppressor, Bidirectional, 2-Pin SMB, Pb-Free, Tape and Reel; Manufacturer: On Semiconductor; PartNumber: P6SMB62CAT3G; IR Max (uA): 5; PPK Max (W): 600; V(BR) Typ (V): 62; DatasheetVersion: Rev. 12; PackageVersion: Rev. H, 05/2011; PackageReference: SMB-2-403A-03_H; PackageDescription: 2-Pin Small Molded Package, J-Bend Lead, Body 4.33 x 3.625 mm; Supplier 1: Digi-Key; Supplier Part Number 1: P6SMB62CAT3GOSTR-ND; Supplier 2: Digi-Key; Supplier Part Number 2: P6SMB62CAT3GOSCT-ND; Supplier 3: Digi-Key; Supplier Part Number 3: P6SMB62CAT3GOSDKR-ND; Supplier 4: Mouser; Supplier Part Number 4: 863-P6SMB62CAT3G; Direction: Bidirectional; Packing: Tape and Reel; RoHS: Pb-Free; Mounting Technology: Surface Mount; ComponentLink1Description: Manufacturer URL; ComponentLink1URL: http://www.onsemi.com/; ComponentLink2Description: Datasheet; ComponentLink2URL: http://www.onsemi.com/pub_link/Collateral/P6SMB11CAT3-D.PDF; ComponentLink3Description: Package Specification; ComponentLink3URL: http://www.onsemi.com/pub_link/Collateral/1SMB5913BT3-D.PDF
footprint ONSC-SMB-2-403A-03_H_V (Molded, 2-Leads, Body 4.6x3.95mm)
pins: 1 A1, 2 A2

## P6SMB68AT3G
designator D?
600 W Peak Power Zener Transient Voltage Suppressor, Unidirectional, 2-Pin SMB, Pb-Free, Tape and Reel; Manufacturer: On Semiconductor; PartNumber: P6SMB68AT3G; IR Max (uA): 5; PPK Max (W): 600; V(BR) Typ (V): 68; DatasheetVersion: Rev. J; PackageVersion: Rev. J, 07/2012; PackageReference: SMB-2-403A-03_J; PackageDescription: 2-Pin Small Molded Package, J-Bend Lead, Body 4.33 x 3.625 mm; Supplier 1: Digi-Key; Supplier Part Number 1: P6SMB68AT3GOSTR-ND; Supplier 2: Digi-Key; Supplier Part Number 2: P6SMB68AT3GOSCT-ND; Supplier 3: Digi-Key; Supplier Part Number 3: P6SMB68AT3GOSDKR-ND; Supplier 4: Newark; Supplier Part Number 4: 26K5168; Supplier 5: Mouser; Supplier Part Number 5: 863-P6SMB68AT3G; Direction: Unidirectional; Packing: Tape and Reel; RoHS: Pb-Free; Mounting Technology: Surface Mount; ComponentLink1Description: Manufacturer URL; ComponentLink1URL: http://www.onsemi.com/; ComponentLink2Description: Datasheet; ComponentLink2URL: http://www.onsemi.com/pub_link/Collateral/P6SMB6.8AT3-D.PDF; ComponentLink3Description: Package Specification; ComponentLink3URL: http://www.onsemi.com/pub_link/Collateral/P6SMB6.8AT3-D.PDF
footprint ONSC-SMB-2-403A-03_J_V (Molded, 2-Leads, Body 4.6x3.95mm)
pins: 1 K, 2 A

## P6SMB68CAT3G
designator D?
600 W Peak Power Zener Transient Voltage Suppressor, Bidirectional, 2-Pin SMB, Pb-Free, Tape and Reel; Manufacturer: On Semiconductor; PartNumber: P6SMB68CAT3G; IR Max (uA): 5; PPK Max (W): 600; V(BR) Typ (V): 68; DatasheetVersion: Rev. 12; PackageVersion: Rev. H, 05/2011; PackageReference: SMB-2-403A-03_H; PackageDescription: 2-Pin Small Molded Package, J-Bend Lead, Body 4.33 x 3.625 mm; Supplier 1: Digi-Key; Supplier Part Number 1: P6SMB68CAT3GOSTR-ND; Supplier 2: Digi-Key; Supplier Part Number 2: P6SMB68CAT3GOSCT-ND; Supplier 3: Digi-Key; Supplier Part Number 3: P6SMB68CAT3GOSDKR-ND; Supplier 4: Newark; Supplier Part Number 4: 26K5169; Supplier 5: Mouser; Supplier Part Number 5: 863-P6SMB68CAT3G; Direction: Bidirectional; Packing: Tape and Reel; RoHS: Pb-Free; Mounting Technology: Surface Mount; ComponentLink1Description: Manufacturer URL; ComponentLink1URL: http://www.onsemi.com/; ComponentLink2Description: Datasheet; ComponentLink2URL: http://www.onsemi.com/pub_link/Collateral/P6SMB11CAT3-D.PDF; ComponentLink3Description: Package Specification; ComponentLink3URL: http://www.onsemi.com/pub_link/Collateral/1SMB5913BT3-D.PDF
footprint ONSC-SMB-2-403A-03_H_V (Molded, 2-Leads, Body 4.6x3.95mm)
pins: 1 A1, 2 A2

## P6SMB75AT3G
designator D?
600 W Peak Power Zener Transient Voltage Suppressor, Unidirectional, 2-Pin SMB, Pb-Free, Tape and Reel; Manufacturer: On Semiconductor; PartNumber: P6SMB75AT3G; IR Max (uA): 5; PPK Max (W): 600; V(BR) Typ (V): 75.05; DatasheetVersion: Rev. J; PackageVersion: Rev. J, 07/2012; PackageReference: SMB-2-403A-03_J; PackageDescription: 2-Pin Small Molded Package, J-Bend Lead, Body 4.33 x 3.625 mm; Supplier 1: Digi-Key; Supplier Part Number 1: P6SMB75AT3G-ND; Supplier 2: Farnell; Supplier Part Number 2: 1311477; Supplier 3: Newark; Supplier Part Number 3: 71J7345; Supplier 4: Mouser; Supplier Part Number 4: 863-P6SMB75AT3G; Direction: Unidirectional; Packing: Tape and Reel; RoHS: Pb-Free; Mounting Technology: Surface Mount; ComponentLink1Description: Manufacturer URL; ComponentLink1URL: http://www.onsemi.com/; ComponentLink2Description: Datasheet; ComponentLink2URL: http://www.onsemi.com/pub_link/Collateral/P6SMB6.8AT3-D.PDF; ComponentLink3Description: Package Specification; ComponentLink3URL: http://www.onsemi.com/pub_link/Collateral/P6SMB6.8AT3-D.PDF
footprint ONSC-SMB-2-403A-03_J_V (Molded, 2-Leads, Body 4.6x3.95mm)
pins: 1 K, 2 A

## P6SMB82AT3G
designator D?
600 W Peak Power Zener Transient Voltage Suppressor, Unidirectional, 2-Pin SMB, Pb-Free, Tape and Reel; Manufacturer: On Semiconductor; PartNumber: P6SMB82AT3G; IR Max (uA): 5; PPK Max (W): 600; V(BR) Typ (V): 82; DatasheetVersion: Rev. J; PackageVersion: Rev. J, 07/2012; PackageReference: SMB-2-403A-03_J; PackageDescription: 2-Pin Small Molded Package, J-Bend Lead, Body 4.33 x 3.625 mm; Supplier 1: Digi-Key; Supplier Part Number 1: P6SMB82AT3GOS-ND; Supplier 2: Newark; Supplier Part Number 2: 83H7848; Supplier 3: Mouser; Supplier Part Number 3: 863-P6SMB82AT3G; Direction: Unidirectional; Packing: Tape and Reel; RoHS: Pb-Free; Mounting Technology: Surface Mount; ComponentLink1Description: Manufacturer URL; ComponentLink1URL: http://www.onsemi.com/; ComponentLink2Description: Datasheet; ComponentLink2URL: http://www.onsemi.com/pub_link/Collateral/P6SMB6.8AT3-D.PDF; ComponentLink3Description: Package Specification; ComponentLink3URL: http://www.onsemi.com/pub_link/Collateral/P6SMB6.8AT3-D.PDF
footprint ONSC-SMB-2-403A-03_J_V (Molded, 2-Leads, Body 4.6x3.95mm)
pins: 1 K, 2 A

## P6SMB82CAT3G
designator D?
600 W Peak Power Zener Transient Voltage Suppressor, Bidirectional, 2-Pin SMB, Pb-Free, Tape and Reel; Manufacturer: On Semiconductor; PartNumber: P6SMB82CAT3G; IR Max (uA): 5; PPK Max (W): 600; V(BR) Typ (V): 82; DatasheetVersion: Rev. 12; PackageVersion: Rev. H, 05/2011; PackageReference: SMB-2-403A-03_H; PackageDescription: 2-Pin Small Molded Package, J-Bend Lead, Body 4.33 x 3.625 mm; Supplier 1: Digi-Key; Supplier Part Number 1: P6SMB82CAT3G-ND; Supplier 2: Mouser; Supplier Part Number 2: 863-P6SMB82CAT3G; Direction: Bidirectional; Packing: Tape and Reel; RoHS: Pb-Free; Mounting Technology: Surface Mount; ComponentLink1Description: Manufacturer URL; ComponentLink1URL: http://www.onsemi.com/; ComponentLink2Description: Datasheet; ComponentLink2URL: http://www.onsemi.com/pub_link/Collateral/P6SMB11CAT3-D.PDF; ComponentLink3Description: Package Specification; ComponentLink3URL: http://www.onsemi.com/pub_link/Collateral/1SMB5913BT3-D.PDF
footprint ONSC-SMB-2-403A-03_H_V (Molded, 2-Leads, Body 4.6x3.95mm)
pins: 1 A1, 2 A2

## P6SMB91AT3
designator D?
600 W Peak Power Zener Transient Voltage Suppressor, Unidirectional, 2-Pin SMB, Tape and Reel; Manufacturer: On Semiconductor; PartNumber: P6SMB91AT3; IR Max (uA): 5; PPK Max (W): 600; V(BR) Typ (V): 91; DatasheetVersion: Rev. J; PackageVersion: Rev. J, 07/2012; PackageReference: SMB-2-403A-03_J; PackageDescription: 2-Pin Small Molded Package, J-Bend Lead, Body 4.33 x 3.625 mm; Direction: Unidirectional; Packing: Tape and Reel; Mounting Technology: Surface Mount; ComponentLink1Description: Manufacturer URL; ComponentLink1URL: http://www.onsemi.com/; ComponentLink2Description: Datasheet; ComponentLink2URL: http://www.onsemi.com/pub_link/Collateral/P6SMB6.8AT3-D.PDF; ComponentLink3Description: Package Specification; ComponentLink3URL: http://www.onsemi.com/pub_link/Collateral/P6SMB6.8AT3-D.PDF
footprint ONSC-SMB-2-403A-03_J_V (Molded, 2-Leads, Body 4.6x3.95mm)
pins: 1 K, 2 A

## P6SMB91AT3G
designator D?
600 W Peak Power Zener Transient Voltage Suppressor, Unidirectional, 2-Pin SMB, Pb-Free, Tape and Reel; Manufacturer: On Semiconductor; PartNumber: P6SMB91AT3G; IR Max (uA): 5; PPK Max (W): 600; V(BR) Typ (V): 91; DatasheetVersion: Rev. J; PackageVersion: Rev. J, 07/2012; PackageReference: SMB-2-403A-03_J; PackageDescription: 2-Pin Small Molded Package, J-Bend Lead, Body 4.33 x 3.625 mm; Supplier 1: Digi-Key; Supplier Part Number 1: P6SMB91AT3G-ND; Supplier 2: Newark; Supplier Part Number 2: 26K5174; Supplier 3: Mouser; Supplier Part Number 3: 863-P6SMB91AT3G; Direction: Unidirectional; Packing: Tape and Reel; RoHS: Pb-Free; Mounting Technology: Surface Mount; ComponentLink1Description: Manufacturer URL; ComponentLink1URL: http://www.onsemi.com/; ComponentLink2Description: Datasheet; ComponentLink2URL: http://www.onsemi.com/pub_link/Collateral/P6SMB6.8AT3-D.PDF; ComponentLink3Description: Package Specification; ComponentLink3URL: http://www.onsemi.com/pub_link/Collateral/P6SMB6.8AT3-D.PDF
footprint ONSC-SMB-2-403A-03_J_V (Molded, 2-Leads, Body 4.6x3.95mm)
pins: 1 K, 2 A

## P6SMB100AT3G
designator D?
600 W Peak Power Zener Transient Voltage Suppressor, Unidirectional, 2-Pin SMB, Pb-Free, Tape and Reel; Manufacturer: On Semiconductor; PartNumber: P6SMB100AT3G; IR Max (uA): 5; PPK Max (W): 600; V(BR) Typ (V): 100; DatasheetVersion: Rev. J; PackageVersion: Rev. J, 07/2012; PackageReference: SMB-2-403A-03_J; PackageDescription: 2-Pin Small Molded Package, J-Bend Lead, Body 4.33 x 3.625 mm; Supplier 1: Digi-Key; Supplier Part Number 1: P6SMB100AT3GOSTR-ND; Supplier 2: Digi-Key; Supplier Part Number 2: P6SMB100AT3GOSCT-ND; Supplier 3: Digi-Key; Supplier Part Number 3: P6SMB100AT3GOSDKR-ND; Supplier 4: Newark; Supplier Part Number 4: 71J7340; Supplier 5: Mouser; Supplier Part Number 5: 863-P6SMB100AT3G; Direction: Unidirectional; Packing: Tape and Reel; RoHS: Pb-Free; Mounting Technology: Surface Mount; ComponentLink1Description: Manufacturer URL; ComponentLink1URL: http://www.onsemi.com/; ComponentLink2Description: Datasheet; ComponentLink2URL: http://www.onsemi.com/pub_link/Collateral/P6SMB6.8AT3-D.PDF; ComponentLink3Description: Package Specification; ComponentLink3URL: http://www.onsemi.com/pub_link/Collateral/P6SMB6.8AT3-D.PDF
footprint ONSC-SMB-2-403A-03_J_V (Molded, 2-Leads, Body 4.6x3.95mm)
pins: 1 K, 2 A

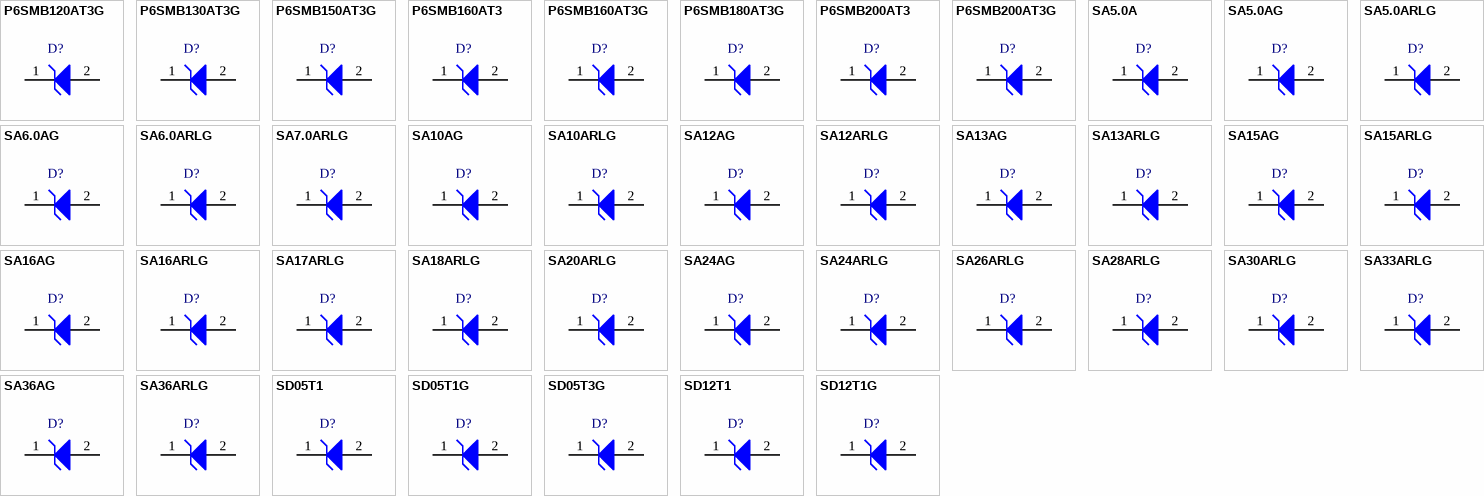
[diagram p13: symbols P6SMB120AT3G to SD12T1G]

## P6SMB120AT3G
designator D?
600 W Peak Power Zener Transient Voltage Suppressor, Unidirectional, 2-Pin SMB, Pb-Free, Tape and Reel; Manufacturer: On Semiconductor; PartNumber: P6SMB120AT3G; IR Max (uA): 5; PPK Max (W): 600; V(BR) Typ (V): 120; DatasheetVersion: Rev. J; PackageVersion: Rev. J, 07/2012; PackageReference: SMB-2-403A-03_J; PackageDescription: 2-Pin Small Molded Package, J-Bend Lead, Body 4.33 x 3.625 mm; Supplier 1: Digi-Key; Supplier Part Number 1: P6SMB120AT3G-ND; Supplier 2: Newark; Supplier Part Number 2: 83K8772; Supplier 3: Mouser; Supplier Part Number 3: 863-P6SMB120AT3G; Direction: Unidirectional; Packing: Tape and Reel; RoHS: Pb-Free; Mounting Technology: Surface Mount; ComponentLink1Description: Manufacturer URL; ComponentLink1URL: http://www.onsemi.com/; ComponentLink2Description: Datasheet; ComponentLink2URL: http://www.onsemi.com/pub_link/Collateral/P6SMB6.8AT3-D.PDF; ComponentLink3Description: Package Specification; ComponentLink3URL: http://www.onsemi.com/pub_link/Collateral/P6SMB6.8AT3-D.PDF
footprint ONSC-SMB-2-403A-03_J_V (Molded, 2-Leads, Body 4.6x3.95mm)
pins: 1 K, 2 A

## P6SMB130AT3G
designator D?
600 W Peak Power Zener Transient Voltage Suppressor, Unidirectional, 2-Pin SMB, Pb-Free, Tape and Reel; Manufacturer: On Semiconductor; PartNumber: P6SMB130AT3G; IR Max (uA): 5; PPK Max (W): 600; V(BR) Typ (V): 130.05; DatasheetVersion: Rev. J; PackageVersion: Rev. J, 07/2012; PackageReference: SMB-2-403A-03_J; PackageDescription: 2-Pin Small Molded Package, J-Bend Lead, Body 4.33 x 3.625 mm; Supplier 1: Digi-Key; Supplier Part Number 1: P6SMB130AT3G-ND; Supplier 2: Newark; Supplier Part Number 2: 42K2547; Supplier 3: Mouser; Supplier Part Number 3: 863-P6SMB130AT3G; Direction: Unidirectional; Packing: Tape and Reel; RoHS: Pb-Free; Mounting Technology: Surface Mount; ComponentLink1Description: Manufacturer URL; ComponentLink1URL: http://www.onsemi.com/; ComponentLink2Description: Datasheet; ComponentLink2URL: http://www.onsemi.com/pub_link/Collateral/P6SMB6.8AT3-D.PDF; ComponentLink3Description: Package Specification; ComponentLink3URL: http://www.onsemi.com/pub_link/Collateral/P6SMB6.8AT3-D.PDF
footprint ONSC-SMB-2-403A-03_J_V (Molded, 2-Leads, Body 4.6x3.95mm)
pins: 1 K, 2 A

## P6SMB150AT3G
designator D?
600 W Peak Power Zener Transient Voltage Suppressor, Unidirectional, 2-Pin SMB, Pb-Free, Tape and Reel; Manufacturer: On Semiconductor; PartNumber: P6SMB150AT3G; IR Max (uA): 5; PPK Max (W): 600; V(BR) Typ (V): 150.05; DatasheetVersion: Rev. J; PackageVersion: Rev. J, 07/2012; PackageReference: SMB-2-403A-03_J; PackageDescription: 2-Pin Small Molded Package, J-Bend Lead, Body 4.33 x 3.625 mm; Supplier 1: Digi-Key; Supplier Part Number 1: P6SMB150AT3GOSTR-ND; Supplier 2: Digi-Key; Supplier Part Number 2: P6SMB150AT3GOSCT-ND; Supplier 3: Digi-Key; Supplier Part Number 3: P6SMB150AT3GOSDKR-ND; Supplier 4: Newark; Supplier Part Number 4: 45J2222; Supplier 5: Newark; Supplier Part Number 5: 10N9600; Supplier 6: Mouser; Supplier Part Number 6: 863-P6SMB150AT3G; Direction: Unidirectional; Packing: Tape and Reel; RoHS: Pb-Free; Mounting Technology: Surface Mount; ComponentLink1Description: Manufacturer URL; ComponentLink1URL: http://www.onsemi.com/; ComponentLink2Description: Datasheet; ComponentLink2URL: http://www.onsemi.com/pub_link/Collateral/P6SMB6.8AT3-D.PDF; ComponentLink3Description: Package Specification; ComponentLink3URL: http://www.onsemi.com/pub_link/Collateral/P6SMB6.8AT3-D.PDF
footprint ONSC-SMB-2-403A-03_J_V (Molded, 2-Leads, Body 4.6x3.95mm)
pins: 1 K, 2 A

## P6SMB160AT3
designator D?
600 W Peak Power Zener Transient Voltage Suppressor, Unidirectional, 2-Pin SMB, Tape and Reel; Manufacturer: On Semiconductor; PartNumber: P6SMB160AT3; IR Max (uA): 5; PPK Max (W): 600; V(BR) Typ (V): 160; DatasheetVersion: Rev. J; PackageVersion: Rev. J, 07/2012; PackageReference: SMB-2-403A-03_J; PackageDescription: 2-Pin Small Molded Package, J-Bend Lead, Body 4.33 x 3.625 mm; Supplier 1: Digi-Key; Supplier Part Number 1: P6SMB160AT3OSCT-ND; Supplier 2: Digi-Key; Supplier Part Number 2: P6SMB160AT3OSDKR-ND; Direction: Unidirectional; Packing: Tape and Reel; Mounting Technology: Surface Mount; ComponentLink1Description: Manufacturer URL; ComponentLink1URL: http://www.onsemi.com/; ComponentLink2Description: Datasheet; ComponentLink2URL: http://www.onsemi.com/pub_link/Collateral/P6SMB6.8AT3-D.PDF; ComponentLink3Description: Package Specification; ComponentLink3URL: http://www.onsemi.com/pub_link/Collateral/P6SMB6.8AT3-D.PDF
footprint ONSC-SMB-2-403A-03_J_V (Molded, 2-Leads, Body 4.6x3.95mm)
pins: 1 K, 2 A

## P6SMB160AT3G
designator D?
600 W Peak Power Zener Transient Voltage Suppressor, Unidirectional, 2-Pin SMB, Pb-Free, Tape and Reel; Manufacturer: On Semiconductor; PartNumber: P6SMB160AT3G; IR Max (uA): 5; PPK Max (W): 600; V(BR) Typ (V): 160; DatasheetVersion: Rev. J; PackageVersion: Rev. J, 07/2012; PackageReference: SMB-2-403A-03_J; PackageDescription: 2-Pin Small Molded Package, J-Bend Lead, Body 4.33 x 3.625 mm; Supplier 1: Digi-Key; Supplier Part Number 1: P6SMB160AT3GOSTR-ND; Supplier 2: Digi-Key; Supplier Part Number 2: P6SMB160AT3GOSCT-ND; Supplier 3: Digi-Key; Supplier Part Number 3: P6SMB160AT3GOSDKR-ND; Supplier 4: Newark; Supplier Part Number 4: 45J2224; Supplier 5: Mouser; Supplier Part Number 5: 863-P6SMB160AT3G; Direction: Unidirectional; Packing: Tape and Reel; RoHS: Pb-Free; Mounting Technology: Surface Mount; ComponentLink1Description: Manufacturer URL; ComponentLink1URL: http://www.onsemi.com/; ComponentLink2Description: Datasheet; ComponentLink2URL: http://www.onsemi.com/pub_link/Collateral/P6SMB6.8AT3-D.PDF; ComponentLink3Description: Package Specification; ComponentLink3URL: http://www.onsemi.com/pub_link/Collateral/P6SMB6.8AT3-D.PDF
footprint ONSC-SMB-2-403A-03_J_V (Molded, 2-Leads, Body 4.6x3.95mm)
pins: 1 K, 2 A

## P6SMB180AT3G
designator D?
600 W Peak Power Zener Transient Voltage Suppressor, Unidirectional, 2-Pin SMB, Pb-Free, Tape and Reel; Manufacturer: On Semiconductor; PartNumber: P6SMB180AT3G; IR Max (uA): 5; PPK Max (W): 600; V(BR) Typ (V): 180; DatasheetVersion: Rev. J; PackageVersion: Rev. J, 07/2012; PackageReference: SMB-2-403A-03_J; PackageDescription: 2-Pin Small Molded Package, J-Bend Lead, Body 4.33 x 3.625 mm; Supplier 1: Digi-Key; Supplier Part Number 1: P6SMB180AT3G-ND; Supplier 2: Newark; Supplier Part Number 2: 26K5156; Supplier 3: Mouser; Supplier Part Number 3: 863-P6SMB180AT3G; Direction: Unidirectional; Packing: Tape and Reel; RoHS: Pb-Free; Mounting Technology: Surface Mount; ComponentLink1Description: Manufacturer URL; ComponentLink1URL: http://www.onsemi.com/; ComponentLink2Description: Datasheet; ComponentLink2URL: http://www.onsemi.com/pub_link/Collateral/P6SMB6.8AT3-D.PDF; ComponentLink3Description: Package Specification; ComponentLink3URL: http://www.onsemi.com/pub_link/Collateral/P6SMB6.8AT3-D.PDF
footprint ONSC-SMB-2-403A-03_J_V (Molded, 2-Leads, Body 4.6x3.95mm)
pins: 1 K, 2 A

## P6SMB200AT3
designator D?
600 W Peak Power Zener Transient Voltage Suppressor, Unidirectional, 2-Pin SMB, Tape and Reel; Manufacturer: On Semiconductor; PartNumber: P6SMB200AT3; IR Max (uA): 5; PPK Max (W): 600; V(BR) Typ (V): 200; DatasheetVersion: Rev. J; PackageVersion: Rev. J, 07/2012; PackageReference: SMB-2-403A-03_J; PackageDescription: 2-Pin Small Molded Package, J-Bend Lead, Body 4.33 x 3.625 mm; Supplier 1: Digi-Key; Supplier Part Number 1: P6SMB200AT3OSCT-ND; Supplier 2: Digi-Key; Supplier Part Number 2: P6SMB200AT3OSDKR-ND; Direction: Unidirectional; Packing: Tape and Reel; Mounting Technology: Surface Mount; ComponentLink1Description: Manufacturer URL; ComponentLink1URL: http://www.onsemi.com/; ComponentLink2Description: Datasheet; ComponentLink2URL: http://www.onsemi.com/pub_link/Collateral/P6SMB6.8AT3-D.PDF; ComponentLink3Description: Package Specification; ComponentLink3URL: http://www.onsemi.com/pub_link/Collateral/P6SMB6.8AT3-D.PDF
footprint ONSC-SMB-2-403A-03_J_V (Molded, 2-Leads, Body 4.6x3.95mm)
pins: 1 K, 2 A

## P6SMB200AT3G
designator D?
600 W Peak Power Zener Transient Voltage Suppressor, Unidirectional, 2-Pin SMB, Pb-Free, Tape and Reel; Manufacturer: On Semiconductor; PartNumber: P6SMB200AT3G; IR Max (uA): 5; PPK Max (W): 600; V(BR) Typ (V): 200; DatasheetVersion: Rev. J; PackageVersion: Rev. J, 07/2012; PackageReference: SMB-2-403A-03_J; PackageDescription: 2-Pin Small Molded Package, J-Bend Lead, Body 4.33 x 3.625 mm; Supplier 1: Digi-Key; Supplier Part Number 1: P6SMB200AT3GOSTR-ND; Supplier 2: Digi-Key; Supplier Part Number 2: P6SMB200AT3GOSCT-ND; Supplier 3: Digi-Key; Supplier Part Number 3: P6SMB200AT3GOSDKR-ND; Supplier 4: Farnell; Supplier Part Number 4: 2101217; Supplier 5: Newark; Supplier Part Number 5: 45J2226; Supplier 6: Mouser; Supplier Part Number 6: 863-P6SMB200AT3G; Direction: Unidirectional; Packing: Tape and Reel; RoHS: Pb-Free; Mounting Technology: Surface Mount; ComponentLink1Description: Manufacturer URL; ComponentLink1URL: http://www.onsemi.com/; ComponentLink2Description: Datasheet; ComponentLink2URL: http://www.onsemi.com/pub_link/Collateral/P6SMB6.8AT3-D.PDF; ComponentLink3Description: Package Specification; ComponentLink3URL: http://www.onsemi.com/pub_link/Collateral/P6SMB6.8AT3-D.PDF
footprint ONSC-SMB-2-403A-03_J_V (Molded, 2-Leads, Body 4.6x3.95mm)
pins: 1 K, 2 A

## SA5.0A
designator D?
500 W Peak Power, MiniMOSORB(TM) Zener Transient Voltage Suppressor, Unidirectional, 2-Pin Axial_Lead, Bulk Box; Manufacturer: On Semiconductor; PartNumber: SA5.0A; IR Max (uA): 600; PPK Max (W): 500; V(BR) Typ (V): 6.7; DatasheetVersion: Rev. 13; PackageVersion: Rev. A, 02/2007; PackageReference: AXIAL_LEAD-2-59AA-01; PackageDescription: 2-Pin, Axial Lead, Diameter 3.1 mm; Direction: Unidirectional; Packing: Bulk Box; Mounting Technology: Through Hole; ComponentLink1Description: Manufacturer URL; ComponentLink1URL: http://www.onsemi.com/; ComponentLink2Description: Datasheet; ComponentLink2URL: http://www.onsemi.com/pub_link/Collateral/SA5.0A-D.PDF; ComponentLink3Description: Package Specification; ComponentLink3URL: http://www.onsemi.com/pub_link/Collateral/59AA.PDF
footprint ONSC-AXIAL_LEAD-2-59AA-01_P (AXIAL, 2-Leads, Diameter 3.1mm)
pins: 1 K, 2 A